# EAGLE library part 687117183622 (library Eagle_FPC_CONNECTOR_AND_FFC_CAB (rev18c))
687117183622 WR-FPC 0.50mm SMT Horizontal Top Contact - Low Profile <http://katalog.we-online.de/media/images/v2/Family_WR-FPC_6871xx183622.jpg> Details see: http://katalog.we-online.de/en/em/FPC_0_5_SMT_ZIF_HORIZONTAL_TOP_CONTACT_LOW_PROFILE_6871xx183622 Created by Yingchun,shan 2016 (C) Wurth Elektronik
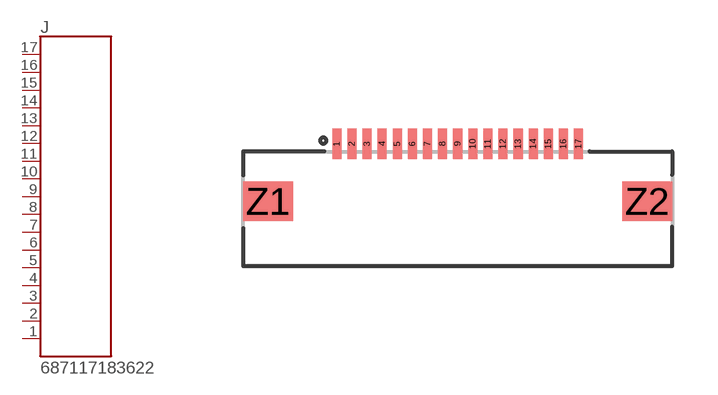
[diagram p181: symbol with the pads of 687117183622; footprint 687117183622]

Designator prefix J

## 687117183622  [687117183622]
1  17  pas
2  16  pas
3  15  pas
4  14  pas
5  13  pas
6  12  pas
7  11  pas
8  10  pas
9  9  pas
10  8  pas
11  7  pas
12  6  pas
13  5  pas
14  4  pas
15  3  pas
16  2  pas
17  1  pas

## Footprint 687117183622 (pad centres in mm)
smd 0.3 x 1: 1 -4.25,1.9; 2 -3.75,1.9; 3 -3.25,1.9; 4 -2.75,1.9; 5 -2.25,1.9; 6 -1.75,1.9; 7 -1.25,1.9; 8 -0.75,1.9; 9 -0.25,1.9; 10 0.25,1.9; 11 0.75,1.9; 12 1.25,1.9; 13 1.75,1.9; 14 2.25,1.9; 15 2.75,1.9; 16 3.25,1.9; 17 3.75,1.9
smd 1.65 x 1.3: Z1 -6.525,0; Z2 6.025,0